# Altium footprint library MAX30100EFD&plus_.PcbLib: 3 footprints
Each footprint in its own frame and in the unit in brackets; x right, y up, seen from the top. Pads: shape width x height; smd on the part's side, far side on the other; paste and mask are expansions set on the pad; w line width, h text height; cw(c..) or ccw(c..) is an arc to the next point about the centre after c.
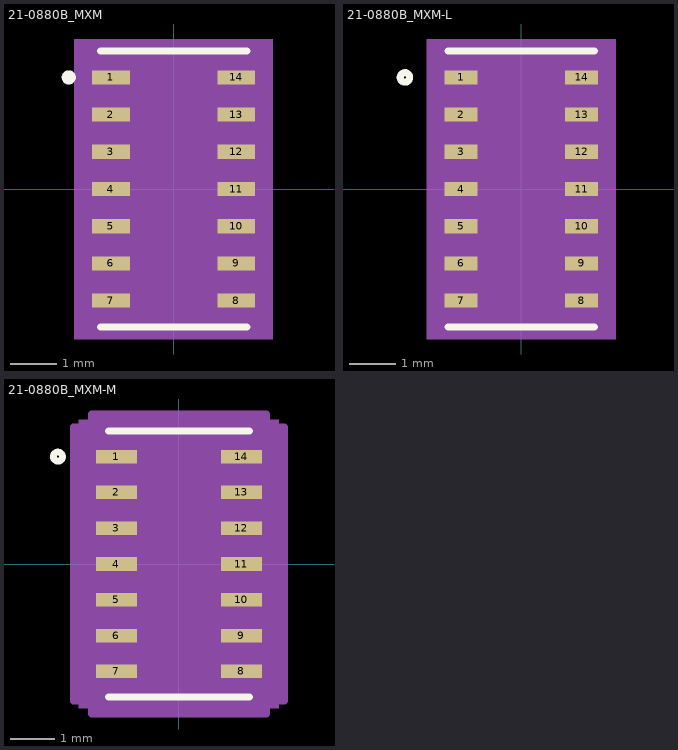
[diagram p0: the footprints below, top view; thin cyan lines are the x and y axes]

## 21-0880B_MXM [mil]
pads (14):
  rect 32x12 smd paste+0 mask+0: 1(-53,94.49) 2(-53,62.99) 3(-53,31.5) 4(-53,0) 5(-53,-31.5) 6(-53,-62.99) 7(-53,-94.49) 8(53,-94.49) 9(53,-62.99) 10(53,-31.5) 11(53,0) 12(53,31.5) 13(53,62.99) 14(53,94.49)
Top Overlay:
  circle w6: c-88.75,94.49 r3
  lines w6: -62,-117 62,-117 ; -62,117 62,117
Mechanical 5:
  region: 84,-127 -84,-127 -84,127 84,127
Mechanical 13:
  circle w6: c-37,94.49 r3
  lines w0: -12,112 ccw(c0,112) 12,112
  lines w1: -57,-112 57,-112 57,112 -57,112 -57,-112
Mechanical 15:
  region: -67,-110.49 -79,-110.49 -79,110.49 -67,110.49 -67,122 67,122 67,110.49 79,110.49 79,-110.49 67,-110.49 67,-122 -67,-122
  lines w6: -79,-110.49 -79,110.49 -67,110.49 -67,122 67,122 67,110.49 79,110.49 79,-110.49 67,-110.49 67,-122 -67,-122 -67,-110.49 -79,-110.49
3D body "21-0880B_MXM.step": height 51.1, standoff 0, extent -57.01,-112.01 57.01,112.01

## 21-0880B_MXM-L [mil]
pads (14):
  rect 28x12 smd paste+0 mask+0: 1(-51,94.49) 2(-51,62.99) 3(-51,31.5) 4(-51,0) 5(-51,-31.5) 6(-51,-62.99) 7(-51,-94.49) 8(51,-94.49) 9(51,-62.99) 10(51,-31.5) 11(51,0) 12(51,31.5) 13(51,62.99) 14(51,94.49)
Top Overlay:
  circle w6: c-98.5,94.49 r4
  lines w6: -62,-117 62,-117 ; -62,117 62,117
Mechanical 5:
  region: 80,-127 -80,-127 -80,127 80,127
Mechanical 13:
  circle w0: c-37,94.49 r3
  lines w0: -12,112 ccw(c0,112) 12,112
  lines w1: -57,-112 57,-112 57,112 -57,112 -57,-112
Mechanical 15:
  region: -61,-104.49 -69,-104.49 -69,104.49 -61,104.49 -61,116 61,116 61,104.49 69,104.49 69,-104.49 61,-104.49 61,-116 -61,-116
  lines w6: -69,-104.49 -69,104.49 -61,104.49 -61,116 61,116 61,104.49 69,104.49 69,-104.49 61,-104.49 61,-116 -61,-116 -61,-104.49 -69,-104.49
3D body "21-0880B_MXM.step": height 51.1, standoff 0, extent -57.01,-112.01 57.01,112.01

## 21-0880B_MXM-M [mil]
pads (14):
  rect 36x12 smd paste+0 mask+0: 1(-55,94.49) 2(-55,62.99) 3(-55,31.5) 4(-55,0) 5(-55,-31.5) 6(-55,-62.99) 7(-55,-94.49) 8(55,-94.49) 9(55,-62.99) 10(55,-31.5) 11(55,0) 12(55,31.5) 13(55,62.99) 14(55,94.49)
Top Overlay:
  circle w6: c-106.5,94.49 r4
  lines w6: -62,-117 62,-117 ; -62,117 62,117
Mechanical 5:
  region: 88,-127 -88,-127 -88,127 88,127
Mechanical 13:
  circle w0: c-37,94.49 r3
  lines w0: -12,112 ccw(c0,112) 12,112
  lines w1: -57,-112 57,-112 57,112 -57,112 -57,-112
Mechanical 15:
  region: -77,-120.49 -93,-120.49 -93,120.49 -77,120.49 -77,132 77,132 77,120.49 93,120.49 93,-120.49 77,-120.49 77,-132 -77,-132
  lines w6: -93,-120.49 -93,120.49 -77,120.49 -77,132 77,132 77,120.49 93,120.49 93,-120.49 77,-120.49 77,-132 -77,-132 -77,-120.49 -93,-120.49
3D body "21-0880B_MXM.step": height 51.1, standoff 0, extent -57.01,-112.01 57.01,112.01